# Altium schematic symbol library Okika.SchLib: 139 symbols
Pins are listed as number, name and electrical type; pins without a type are passive.

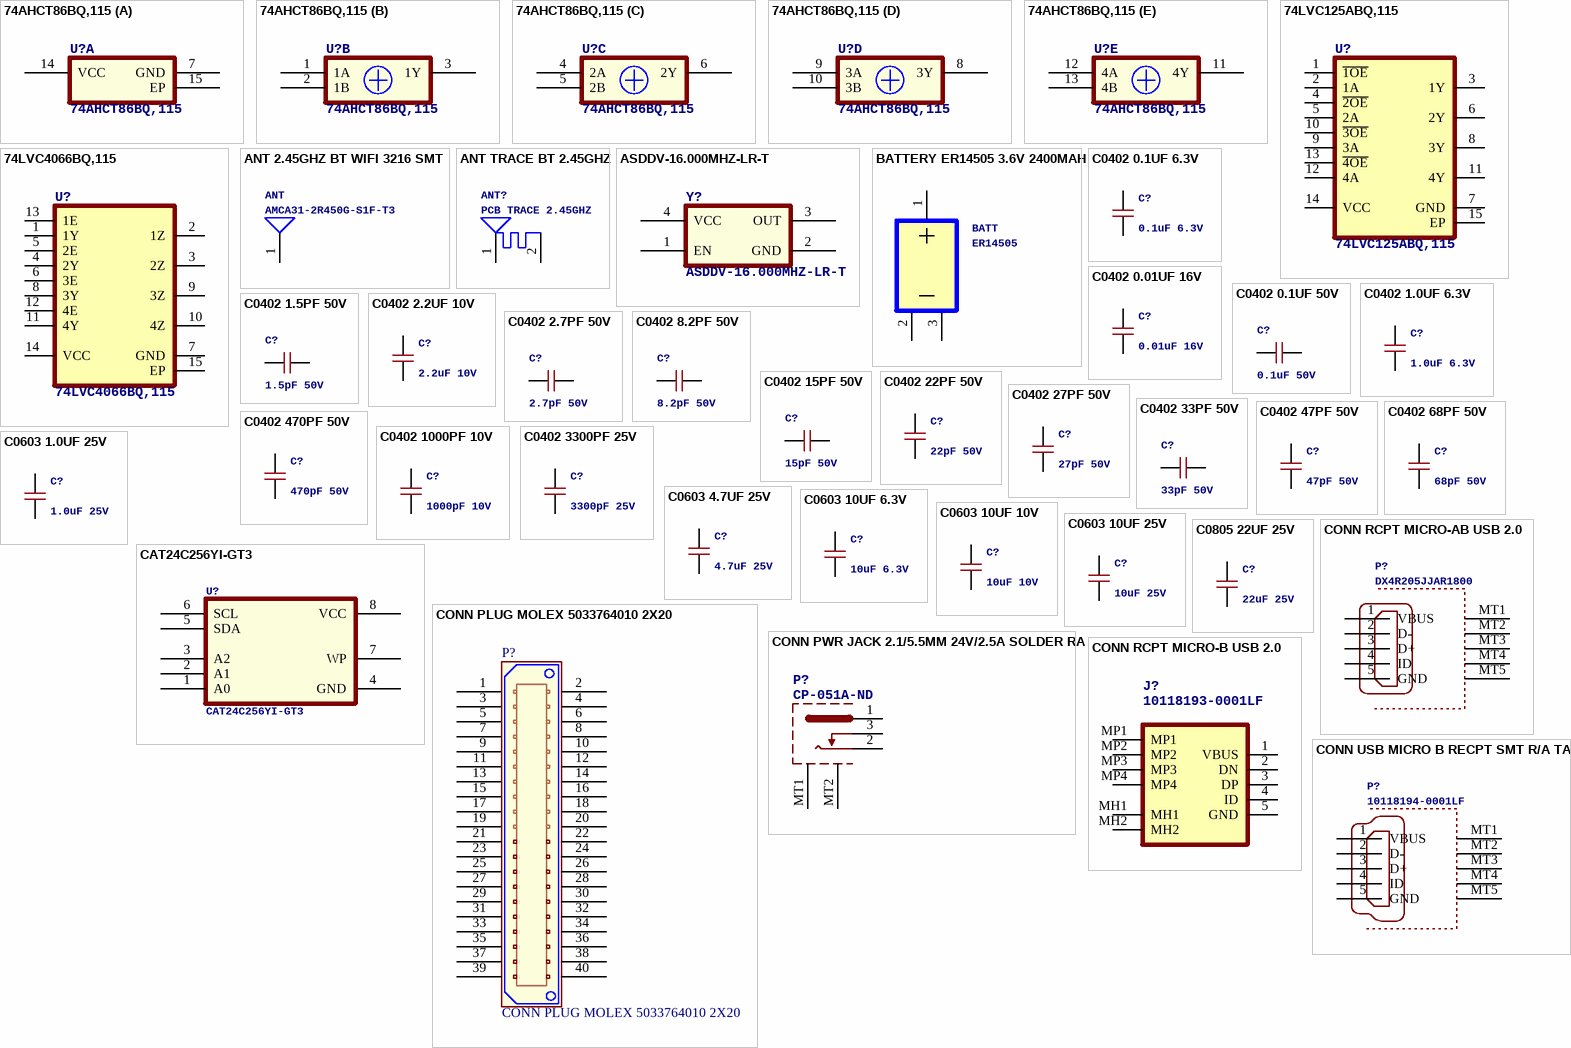
[diagram p0: symbols 74AHCT86BQ,115 to CONN USB MICRO B RECPT SMT R/A TABS]

## 74AHCT86BQ,115
designator U?
IC GATE XOR 4CH 2-INP 14DHVQFN; Manufacturer: NEXPERIA; Manufacturer Part Number: 74AHCT86BQ,115; Supplier 1: Mouser; Supplier 2: Arrow Electronics; Supplier 3: Digi-Key; Supplier Part Number 1: 771-74AHCT86BQ115; Supplier Part Number 2: 74AHCT86BQ,115; Supplier Part Number 3: 1727-4488-6-ND
footprint DHVQFN14
part A pins: 7 GND, 14 VCC, 15 EP
part B pins: 1 1A, 2 1B, 3 1Y
part C pins: 4 2A, 5 2B, 6 2Y
part D pins: 8 3Y, 9 3A, 10 3B
part E pins: 11 4Y, 12 4A, 13 4B

## 74LVC125ABQ,115
designator U?
IC BUFF NON-INVERT 3-ST 1.2-3.6V 14DHVQFN; Manufacturer: Nexperia; Manufacturer Part Number: 74LVC125ABQ,115; Supplier 1: Digi-Key; Supplier Part Number 1: 1727-3481-6-ND; Supplier 2: Mouser; Supplier Part Number 2: 771-LVC125ABQ115
footprint QFN50P250X300X100-15N-D (Footprint not found)
pins: 1 ~{1OE}, 2 1A, 3 1Y, 4 ~{2OE}, 5 2A, 6 2Y, 7 GND, 8 3Y, 9 3A, 10 ~{3OE}, 11 4Y, 12 4A, 13 ~{4OE}, 14 VCC, 15 EP

## 74LVC4066BQ,115
designator U?
IC SWITCH QUAD SPST 14DHVQFN; Manufacturer: Nexperia; Manufacturer Part Number: 74LVC4066BQ,115; Supplier 1: Digi-Key; Supplier Part Number 1: 1727-3499-6-ND; Supplier 2: Arrow Electronics; Supplier Part Number 2: 74LVC4066BQ,115; Supplier 3: Mouser; Supplier Part Number 3: 771-LVC4066BQ115
footprint QFN50P250X300X100-15N-D
pins: 1 1Y, 2 1Z, 3 2Z, 4 2Y, 5 2E, 6 3E, 7 GND, 8 3Y, 9 3Z, 10 4Z, 11 4Y, 12 4E, 13 1E, 14 VCC, 15 EP

## ANT 2.45GHZ BT WIFI 3216 SMT
designator ANT, comment AMCA31-2R450G-S1F-T3
ANTENNA CHIP DIELECTRIC 2450MHZ; Supplier 1: Digi-Key; Supplier Part Number 1: 535-14095-6-ND
footprint NEEDS_UPDATING (Footprint not found)
pins: 1

## ANT TRACE BT 2.45GHZ
designator ANT?, comment PCB TRACE 2.45GHZ  (no BOM)
ANTENNA TRACE BT 2.45GHZ
footprint NEEDS_UPDATING (Footprint not found)
pins: 1, 2

## ASDDV-16.000MHZ-LR-T
designator Y?
OSC XO 16.000MHZ CMOS SMD 2.5x2.0MM; Manufacturer: ABRACON; Manufacturer Part Number: ASDDV-16.000MHZ-LR-T; Supplier 1: Digi-Key; Supplier 2: Mouser; Supplier Part Number 1: 535-ASDDV-16.000MHZ-LR-TDKR-ND; Supplier Part Number 2: 815-ASDDV-1600MHZLRT
footprint XTAL_2X2R5_CX2520
pins: 1 EN, 2 GND, 3 OUT, 4 VCC

## BATTERY ER14505 3.6V 2400MAH
designator BATT, comment ER14505
BATT NON-RECHRG 3.6V 2400mAH TH
footprint NEEDS_UPDATING (Footprint not found)
pins: 1, 2, 3

## C0402 0.1UF 6.3V
designator C?, comment 0.1uF 6.3V
CAP CER 0.1UF 6.3V X5R 0402; Manufacturer: MURATA; Manufacturer Part Number: GRM155R60J104KA01D; Supplier 1: Digi-Key; Supplier Part Number 1: 490-6287-6-ND
footprint SMC_0402
pins: 1, 2

## C0402 0.01UF 16V
designator C?, comment 0.01uF 16V
CAP CER 0.01UF 16V X5R 0402; Manufacturer: MURATA; Manufacturer Part Number: GRM155R61C103KA01D; Supplier 1: Digi-Key; Supplier Part Number 1: 490-6309-6-ND
footprint SMC_0402
pins: 1, 2

## C0402 0.1UF 50V
designator C?, comment 0.1uF 50V
CAP CER 0.1UF 50V X7R 0402; Manufacturer: TAIYO YUDEN; Manufacturer Part Number: UMK105B7104KV-FR; Supplier 1: Digi-Key; Supplier Part Number 1: 587-3498-6-ND
footprint SMC_0402
pins: 1, 2

## C0402 1.0UF 6.3V
designator C?, comment 1.0uF 6.3V
CAP CER 1UF 6.3V X5R 0402; Manufacturer: TAIYO YUDEN; Manufacturer Part Number: JMK105BJ105KV-F; Supplier 1: Digi-Key; Supplier Part Number 1: 587-1231-6-ND
footprint SMC_0402
pins: 1, 2

## C0402 1.5PF 50V
designator C?, comment 1.5pF 50V
CAP CER 1.5PF 50V C0G/NPO 0402; Manufacturer: YAGEO; Manufacturer Part Number: CC0402CRNPO9BN1R5; Supplier 1: Digi-Key; Supplier Part Number 1: 311-1003-6-ND
footprint SMC_0402
pins: 1, 2

## C0402 2.2UF 10V
designator C?, comment 2.2uF 10V
CAP CER 2.2UF 10V X5R 0402; Manufacturer: MURATA; Manufacturer Part Number: GRT155R61A225KE01D; Supplier 1: Digi-Key; Supplier Part Number 1: 490-12253-6-ND
footprint SMC_0402
pins: 1, 2

## C0402 2.7PF 50V
designator C?, comment 2.7pF 50V
CAP CER 2.7PF 50V C0G/NP0 0402; Supplier 1: Digi-Key; Supplier Part Number 1: 490-5934-1-ND
footprint SMC_0402
pins: 1, 2

## C0402 8.2PF 50V
designator C?, comment 8.2pF 50V
CAP CER 8.2PF 50V C0G/NP0 0402; Supplier 1: Digi-Key; Supplier Part Number 1: 490-5953-1-ND
footprint SMC_0402
pins: 1, 2

## C0402 15PF 50V
designator C?, comment 15pF 50V
CAP CER 15PF 50V C0G/NP0 0402; Manufacturer: MURATA; Manufacturer Part Number: GRM1555C1H150JA01D; Supplier 1: Digi-Key; Supplier Part Number 1: 490-5888-1-ND
footprint SMC_0402
pins: 1, 2

## C0402 22PF 50V
designator C?, comment 22pF 50V
CAP CER 22PF 50V C0G/NP0 0402; Supplier 1: Digi-Key; Supplier Part Number 1: 490-11382-1-ND
footprint SMC_0402
pins: 1, 2

## C0402 27PF 50V
designator C?, comment 27pF 50V
CAP CER 27PF 50V C0G/NP0 0402; Supplier 1: Digi-Key; Supplier Part Number 1: 490-11384-1-ND
footprint SMC_0402
pins: 1, 2

## C0402 33PF 50V
designator C?, comment 33pF 50V
CAP CER 33PF 50V C0G/NP0 0402; Supplier 1: Digi-Key; Supplier Part Number 1: 490-5936-1-ND
footprint SMC_0402
pins: 1, 2

## C0402 47PF 50V
designator C?, comment 47pF 50V
CAP CER 47PF 50V C0G/NPO 0402; Supplier 1: Digi-Key; Supplier Part Number 1: 490-6241-1-ND
footprint SMC_0402
pins: 1, 2

## C0402 68PF 50V
designator C?, comment 68pF 50V
CAP CER 68PF 50V C0G/NPO 0402; Supplier 1: Digi-Key; Supplier Part Number 1: 490-5876-1-ND
footprint SMC_0402
pins: 1, 2

## C0402 470PF 50V
designator C?, comment 470pF 50V
CAP CER 470PF 50V C0G/NPO 0402; Manufacturer: YAGEO; Manufacturer Part Number: CC0402JRNPO9BN471; Supplier 1: Digi-Key; Supplier Part Number 1: 311-1671-6-ND
footprint SMC_0402
pins: 1, 2

## C0402 1000PF 10V
designator C?, comment 1000pF 10V
CAP CER 1000PF 10V X5R 0402; Manufacturer: MURATA; Manufacturer Part Number: GRM155R61A102KA01D; Supplier 1: Digi-Key; Supplier Part Number 1: 490-6295-6-ND
footprint SMC_0402
pins: 1, 2

## C0402 3300PF 25V
designator C?, comment 3300pF 25V
CAP CER 3300PF 25V X7R 0402; Manufacturer: TAIYO YUDEN; Manufacturer Part Number: TMK105B7332KV-F; Supplier 1: Digi-Key; Supplier Part Number 1: 587-5592-6-ND
footprint SMC_0402
pins: 1, 2

## C0603 1.0UF 25V
designator C?, comment 1.0uF 25V
CAP CER 1UF 25V X5R 0603; Manufacturer: MURATA; Manufacturer Part Number: GRT188R61E105KE13D; Supplier 1: Digi-Key; Supplier Part Number 1: 490-12321-6-ND
footprint SMC_0603
pins: 1, 2

## C0603 4.7UF 25V
designator C?, comment 4.7uF 25V
CAP CER 4.7UF 25V X5R 0603; Supplier 1: Digi-Key; Supplier Part Number 1: 490-14462-6-ND
footprint SMC_0603
pins: 1, 2

## C0603 10UF 6.3V
designator C?, comment 10uF 6.3V
CAP CER 10UF 6.3V X5R 0603; Supplier 1: Digi-Key; Supplier Part Number 1: 587-6012-6-ND
footprint SMC_0603
pins: 1, 2

## C0603 10UF 10V
designator C?, comment 10uF 10V
CAP CER 10UF 10V X5R 0603; Manufacturer: SAMSUNG; Manufacturer Part Number: CL10A106KP8NNNC; Supplier 1: Digi-Key; Supplier Part Number 1: 1276-1192-6-ND
footprint SMC_0603
pins: 1, 2

## C0603 10UF 25V
designator C?, comment 10uF 25V
CAP CER 10UF 25V X5R 0603; Manufacturer: SAMSUNG; Manufacturer Part Number: CL10A106MA8NRNC; Supplier 1: Digi-Key; Supplier Part Number 1: 1276-1869-6-ND
footprint SMC_0603
pins: 1, 2

## C0805 22UF 25V
designator C?, comment 22uF 25V
CAP CER 22UF 25V X5R 0805; Manufacturer: SAMSUNG; Manufacturer Part Number: CL21A226MAYNNNE; Supplier 1: Digi-Key; Supplier Part Number 1: 1276-CL21A226MAYNNNETR-ND
footprint SMC_0805
pins: 1, 2

## CAT24C256YI-GT3
designator U?
IC EEPROM 256K I2C 1MHZ 8TSSOP; Manufacturer: ON-SEMICONDUCTOR; Supplier 1: Digi-Key; Supplier Part Number 1: CAT24C256YI-GT3OSDKR-ND; Manufacturer Part Number: CAT24C256YI-GT3
footprint NEEDS_UPDATING (Footprint not found)
footprint TSSOP8_6R6X3_R65MLS
pins: 1 A0, 2 A1, 3 A2, 4 GND, 5 SDA, 6 SCL, 7 WP, 8 VCC

## CONN PLUG MOLEX 5033764010 2X20
designator P?
CONN PLUG R/A 40CKT DUAL SMD; Supplier 1: Digi-Key; Supplier Part Number 1: WM14493CT-ND
footprint MOLEX_5033764010
pins: 1, 2, 3, 4, 5, 6, 7, 8, 9, 10, 11, 12, 13, 14, 15, 16, 17, 18, 19, 20, 21, 22, 23, 24, 25, 26, 27, 28, 29, 30, 31, 32, 33, 34, 35, 36, 37, 38, 39, 40

## CONN PWR JACK 2.1/5.5MM 24V/2.5A SOLDER RA
designator P?, comment Supplier Part Number 1: CP-051A-ND  (hidden comment: PJ-051A)
CONN PWR JACK 2.1/5.5MM 24V/2.5A SOLDER RA; Manufacturer: CUI DEVICES; Supplier 1: Digi-Key; Manufacturer Part Number: PJ-051A
footprint PJ-051A
pins: 1 IN, 2 OUT, 3 OUT_CON, MT1, MT2

## CONN RCPT MICRO-AB USB 2.0
designator P?, comment DX4R205JJAR1800
CONN RCPT USB 2.0 MICRO USB-AB; Supplier 1: Digi-Key; Supplier Part Number 1: 670-2677-6-ND
footprint JAE-SJ112925
pins: 1 VBUS, 2 D-, 3 D+, 4 ID, 5 GND, MT1, MT2, MT3, MT4, MT5

## CONN RCPT MICRO-B USB 2.0
designator J?, comment 10118193-0001LF
CONN RCPT USB 2.0 MICRO B SMD R/A; Manufacturer: Amphenol; Part Number: 10118193-0001LF; Supplier 1: Digi-Key; Supplier Part Number 1: 609-4616-6-ND; Supplier 2: Mouser; Supplier Part Number 2: 649-10118193-0001LF; Supplier 3: Arrow; Supplier Part Number 3: 10118193-0001LF
footprint 101181930001LF
pins: 1 VBUS, 2 DN, 3 DP, 4 ID, 5 GND, MH1, MH2, MP1, MP2, MP3, MP4

## CONN USB MICRO B RECPT SMT R/A TABS
designator P?, comment 10118194-0001LF
CONN USB MICRO B RECPT SMT R/A TABS; Supplier 1: Digi-Key; Supplier Part Number 1: 609-4618-6-ND
footprint NEEDS_UPDATING (Footprint not found)
pins: 1 VBUS, 2 D-, 3 D+, 4 ID, 5 GND, MT1, MT2, MT3, MT4, MT5

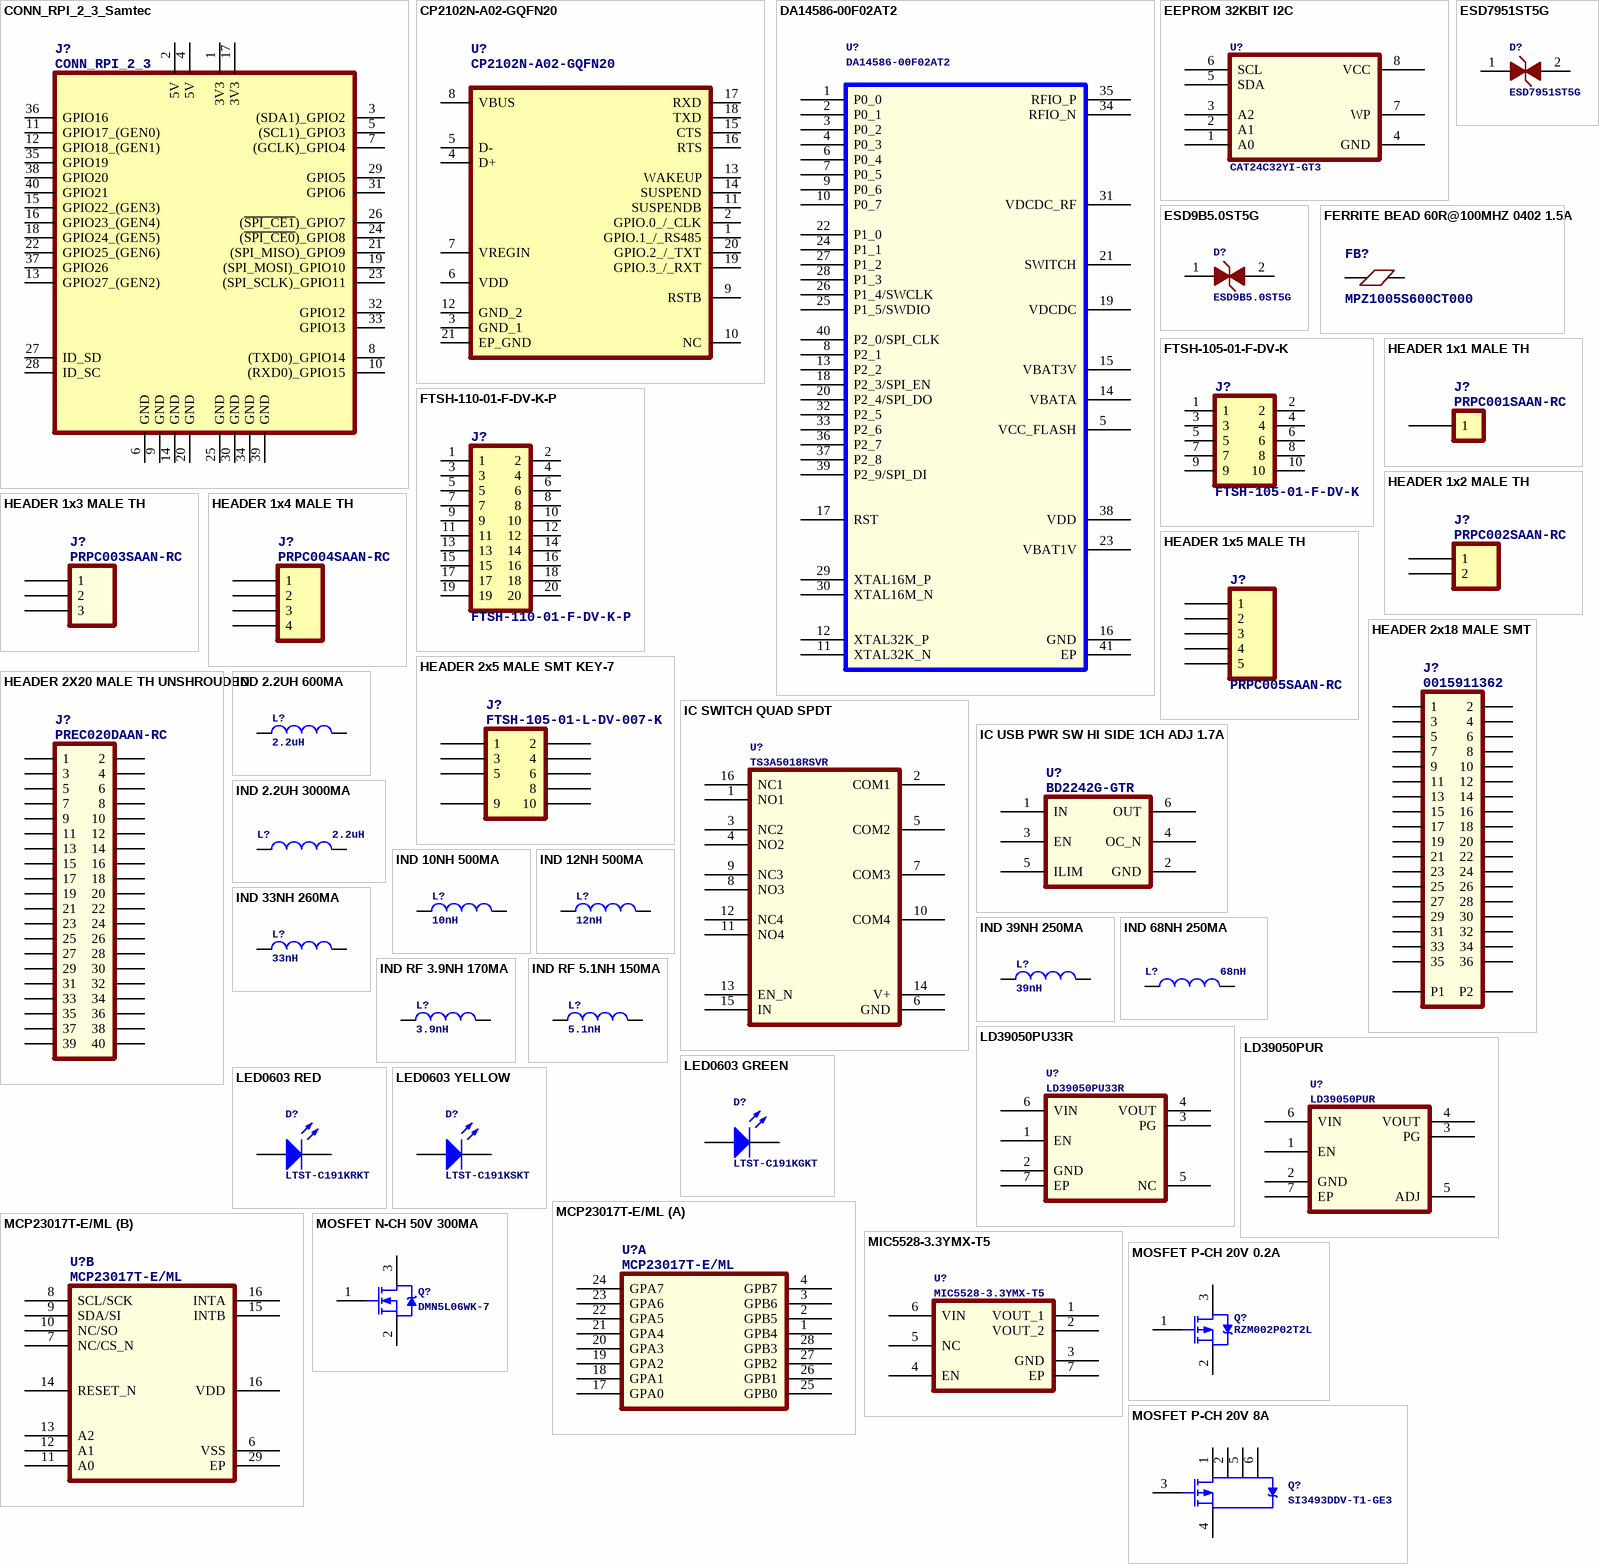
[diagram p1: symbols CONN_RPI_2_3_Samtec to MOSFET P-CH 20V 8A]

## CONN_RPI_2_3_Samtec
designator J?, comment CONN_RPI_2_3
CONN RASPBERRY PI 2/3; Manufacturer: SAMTEC; Manufacturer Part Number: ESQ-120-24-L-D
footprint HDR_20X2_ESQ-120-24-L-D
pins: 1 3V3, 2 5V, 3 (SDA1)_GPIO2, 4 5V, 5 (SCL1)_GPIO3, 6 GND, 7 (GCLK)_GPIO4, 8 (TXD0)_GPIO14, 9 GND, 10 (RXD0)_GPIO15, 11 GPIO17_(GEN0), 12 GPIO18_(GEN1), 13 GPIO27_(GEN2), 14 GND, 15 GPIO22_(GEN3), 16 GPIO23_(GEN4), 17 3V3, 18 GPIO24_(GEN5), 19 (SPI_MOSI)_GPIO10, 20 GND, 21 (SPI_MISO)_GPIO9, 22 GPIO25_(GEN6), 23 (SPI_SCLK)_GPIO11, 24 (~{SPI_CE0})_GPIO8, 25 GND, 26 (~{SPI_CE1})_GPIO7, 27 ID_SD, 28 ID_SC, 29 GPIO5, 30 GND, 31 GPIO6, 32 GPIO12, 33 GPIO13, 34 GND, 35 GPIO19, 36 GPIO16, 37 GPIO26, 38 GPIO20, 39 GND, 40 GPIO21

## CP2102N-A02-GQFN20
designator U?
IC USB TO UART BRIDGE QFN20; Manufacturer: Silicon Labs; Part Number: CP2102N-A02-GQFN20; Supplier 1: Newark; Supplier Part Number 1: 66AH5402; Supplier 2: Mouser; Supplier Part Number 2: 634-CP2102NA02QFN20R; Supplier 3: Digi-Key; Supplier Part Number 3: 336-5886-6-ND; Supplier 4: Arrow; Supplier Part Number 4: CP2102N-A02-GQFN20R
footprint CP2102NA02GQFN20
pins: 1 GPIO.1_/_RS485, 2 GPIO.0_/_CLK, 3 GND_1, 4 D+, 5 D-, 6 VDD, 7 VREGIN, 8 VBUS, 9 RSTB, 10 NC, 11 SUSPENDB, 12 GND_2, 13 WAKEUP, 14 SUSPEND, 15 CTS, 16 RTS, 17 RXD, 18 TXD, 19 GPIO.3_/_RXT, 20 GPIO.2_/_TXT, 21 EP_GND

## DA14586-00F02AT2
designator U?
RADIO BT5.0 CORTEX-M0 2MBIT FLASH QFN40; Supplier 1: Digi-Key; Supplier Part Number 1: 1564-1048-1-ND
footprint NEEDS_UPDATING (Footprint not found)
pins: 1 P0_0, 2 P0_1, 3 P0_2, 4 P0_3, 5 VCC_FLASH, 6 P0_4, 7 P0_5, 8 P2_1, 9 P0_6, 10 P0_7, 11 XTAL32K_N, 12 XTAL32K_P, 13 P2_2, 14 VBATA, 15 VBAT3V, 16 GND, 17 RST, 18 P2_3/SPI_EN, 19 VDCDC, 20 P2_4/SPI_DO, 21 SWITCH, 22 P1_0, 23 VBAT1V, 24 P1_1, 25 P1_5/SWDIO, 26 P1_4/SWCLK, 27 P1_2, 28 P1_3, 29 XTAL16M_P, 30 XTAL16M_N, 31 VDCDC_RF, 32 P2_5, 33 P2_6, 34 RFIO_N, 35 RFIO_P, 36 P2_7, 37 P2_8, 38 VDD, 39 P2_9/SPI_DI, 40 P2_0/SPI_CLK, 41 EP

## EEPROM 32KBIT I2C
designator U?, comment CAT24C32YI-GT3
IC EEPROM 32K I2C 1MHZ 8TSSOP; Manufacturer: ON-SEMICONDUCTOR; Supplier 1: Digi-Key; Supplier Part Number 1: CAT24C32YI-GT3OSDKR-ND; Manufacturer Part Number: CAT24C32YI-GT3
footprint NEEDS_UPDATING (Footprint not found)
footprint TSSOP8_6R6X3_R65MLS
pins: 1 A0, 2 A1, 3 A2, 4 GND, 5 SDA, 6 SCL, 7 WP, 8 VCC

## ESD9B5.0ST5G
designator D?
TVS DIODE 5VWM 12.5VC 15A SOD923; Manufacturer: ON-SEMI; Manufacturer Part Number: SZESD9B5.0ST5G; Supplier 1: Digi-Key; Supplier Part Number 1: SZESD9B5.0ST5GOSDKR-ND
footprint SOD923
pins: 1, 2

## ESD7951ST5G
designator D?
TVS DIODE 5VWM 12.5VC 1A SOD923; Manufacturer: ON-SEMI; Manufacturer Part Number: ESD7951ST5G; Supplier 1: Digi-Key; Supplier 2: Newark; Supplier 3: Avnet; Supplier Part Number 1: ESD7951ST5GOSDKR-ND; Supplier Part Number 2: 81Y6119; Supplier Part Number 3: ESD7951ST5G
footprint SOD923
pins: 1, 2

## FERRITE BEAD 60R@100MHZ 0402 1.5A
designator FB?, comment MPZ1005S600CT000
FERRITE BEAD 60 OHM 0402 1LN; Supplier 1: Digi-Key; Supplier Part Number 1: 445-2980-6-ND
footprint SML_0402
pins: 1, 2

## FTSH-105-01-F-DV-K
designator J?
CONN HEADER SMD VERT 10POS 1.27MM KEYED; Manufacturer: Samtec; Manufacturer Part Number: FTSH-105-01-F-DV-K; Supplier 1: Digi-Key; Supplier Part Number 1: SAM8796-ND; Supplier 2: Mouser; Supplier Part Number 2: 200-FTSH10501FDVK; Supplier 3: Arrow Electronics; Supplier Part Number 3: FTSH-105-01-F-DV-K
footprint Samtec_FTSH-105-01-F-DV-K (CONN HEADER SMD 10POS 1.27MM)
pins: 1, 2, 3, 4, 5, 6, 7, 8, 9, 10

## FTSH-110-01-F-DV-K-P
designator J?
CONN HEADER SMD 20POS 1.27MM; Manufacturer: SAMTEC; Manufacturer Part Number: CONN HEADER SMD 20POS 1.27MM; Supplier 1: Digi-Key; Supplier 2: Avnet; Supplier 3: Arrow Electronics; Supplier 4: Mouser; Supplier Part Number 1: SAM9453-ND; Supplier Part Number 2: FTSH-110-01-F-DV-K-P; Supplier Part Number 3: FTSH-110-01-F-DV-K-P; Supplier Part Number 4: 200-FTSH11001FDVKP
footprint Samtec_FTSH-110-01-F-DV-K-P
pins: 1, 2, 3, 4, 5, 6, 7, 8, 9, 10, 11, 12, 13, 14, 15, 16, 17, 18, 19, 20

## HEADER 1x1 MALE TH
designator J?, comment PRPC001SAAN-RC
CONN HEADER .100" SNGL STR 1POS; Supplier 1: Digi-Key; Supplier Part Number 1: S1011EC-01-ND
footprint HDR1X1_R1LS_R23H
pins: 1

## HEADER 1x2 MALE TH
designator J?, comment PRPC002SAAN-RC
CONN HEADER .100" SNGL STR 2POS; Supplier 1: Digi-Key; Supplier Part Number 1: S1011EC-02-ND
footprint HDR2X1_R1LS_R23H
pins: 1, 2

## HEADER 1x3 MALE TH
designator J?, comment PRPC003SAAN-RC
CONN HEADER .100" SNGL STR 3POS; Manufacturer: SULLINS; Supplier 1: Digi-Key; Supplier Part Number 1: S1011EC-03-ND; Manufacturer Part Number: PRPC003SAAN-RC
footprint HDR3X1_R1LS_R23H
pins: 1, 2, 3

## HEADER 1x4 MALE TH
designator J?, comment PRPC004SAAN-RC
CONN HEADER .100" SNGL STR 4POS; Supplier 1: Digi-Key; Supplier Part Number 1: S1011EC-04-ND
footprint HDR4X1_R1LS_R23H
pins: 1, 2, 3, 4

## HEADER 1x5 MALE TH
designator J?, comment PRPC005SAAN-RC
CONN HEADER .100" SNGL STR 5POS; Supplier 1: Digi-Key; Supplier Part Number 1: S1011EC-05-ND
footprint HDR5X1_R1LS_R23H (Footprint not found)
pins: 1, 2, 3, 4, 5

## HEADER 2x5 MALE SMT KEY-7
designator J?, comment FTSH-105-01-L-DV-007-K
CONN HEADER SMD 10POS 1.27MM KEYED; Supplier 1: Digi-Key; Supplier Part Number 1: SAM9438-ND
footprint HEADER 2x5 MALE SMT KEY-7 (CONN HEADER ZH SIDE 3POS 1.5MM)
pins: 1, 2, 3, 4, 5, 6, 8, 9, 10

## HEADER 2x18 MALE SMT
designator J?, comment 0015911362
CONN HEADER SMD 36POS 2.54MM DUAL ROW; Manufacturer: MOLEX; Supplier 1: Digi-Key; Supplier 2: Mouser; Supplier 3: Avnet; Manufacturer Part Number: 0015911362; Supplier Part Number 1: 0015911362-ND; Supplier Part Number 2: 538-15-91-1362; Supplier Part Number 3: 0015911362
footprint HUSSP36W64P254_2X18_4572X508X840P
pins: 1, 2, 3, 4, 5, 6, 7, 8, 9, 10, 11, 12, 13, 14, 15, 16, 17, 18, 19, 20, 21, 22, 23, 24, 25, 26, 27, 28, 29, 30, 31, 32, 33, 34, 35, 36, 37 P1, 38 P2

## HEADER 2X20 MALE TH UNSHROUDED
designator J?, comment PREC020DAAN-RC
CONN HEADER .100" DUAL STR 40POS; Supplier 1: Digi-Key; Supplier Part Number 1: S2011EC-20-ND
footprint HDR_20X2_R1LS_R45H
pins: 1, 2, 3, 4, 5, 6, 7, 8, 9, 10, 11, 12, 13, 14, 15, 16, 17, 18, 19, 20, 21, 22, 23, 24, 25, 26, 27, 28, 29, 30, 31, 32, 33, 34, 35, 36, 37, 38, 39, 40

## IC SWITCH QUAD SPDT
designator U?, comment TS3A5018RSVR
IC SWITCH QUAD SPDT 16UQFN; Supplier 1: Digi-Key; Supplier Part Number 1: 296-27552-6-ND
footprint NEEDS_UPDATING (Footprint not found)
pins: 1 NO1, 2 COM1, 3 NC2, 4 NO2, 5 COM2, 6 GND, 7 COM3, 8 NO3, 9 NC3, 10 COM4, 11 NO4, 12 NC4, 13 EN_N, 14 V+, 15 IN, 16 NC1

## IC USB PWR SW HI SIDE 1CH ADJ 1.7A
designator U?, comment BD2242G-GTR
IC USB PWR SW HI SIDE 1CH ADJ 1.7A 6SSOP; Supplier 1: Digi-Key; Supplier Part Number 1: BD2242G-GDKR-ND
footprint SSOP6
pins: 1 IN, 2 GND, 3 EN, 4 OC_N, 5 ILIM, 6 OUT

## IND 2.2UH 600MA
designator L?, comment 2.2uH
FIXED IND 2.2UH 600MA 160 MOHM; Supplier 1: Digi-Key; Supplier Part Number 1: 445-8658-6-ND
footprint SML_0805
pins: 1, 2

## IND 2.2UH 3000MA
designator L?, comment 2.2uH
FIXED IND 2.2UH 3A 84 MOHM SMD; Manufacturer: MURATA; Manufacturer Part Number: DFE252012P-2R2M=P2; Supplier 1: Digi-Key; Supplier Part Number 1: 490-10649-6-ND
footprint SML_1008
pins: 1, 2

## IND 10NH 500MA
designator L?, comment 10nH
FIXED IND 10NH 500MA 170 MOHM; Supplier 1: Digi-Key; Supplier Part Number 1: 490-1146-1-ND
footprint SML_0402
pins: 1, 2

## IND 12NH 500MA
designator L?, comment 12nH
FIXED IND 12NH 500MA 140 MOHM; Supplier 1: Digi-Key; Supplier Part Number 1: 490-1147-1-ND
footprint SML_0402
pins: 1, 2

## IND 33NH 260MA
designator L?, comment 33nH
FIXED IND 33NH 260MA 630 MOHM; Supplier 1: Digi-Key; Supplier Part Number 1: 490-1152-1-ND
footprint SML_0402
pins: 1, 2

## IND 39NH 250MA
designator L?, comment 39nH
FIXED IND 39NH 250MA 1.06 OHM; Supplier 1: Digi-Key; Supplier Part Number 1: 490-1092-1-ND
footprint SML_0402
pins: 1, 2

## IND 68NH 250MA
designator L?, comment 68nH
FIXED IND 68NH 250MA 920 MOHM; Supplier 1: Digi-Key; Supplier Part Number 1: 490-2633-1-ND
footprint SML_0402
pins: 1, 2

## IND RF 3.9NH 170MA
designator L?, comment 3.9nH
FIXED IND 3.9NH +/-0.1NH 170MA 500 MOHM; Supplier 1: Digi-Key; Supplier Part Number 1: 490-1131-6-ND
footprint SML_0402
pins: 1, 2

## IND RF 5.1NH 150MA
designator L?, comment 5.1nH
FIXED IND 5.1NH +/-0.1NH 140MA 700 MOHM; Supplier 1: Digi-Key; Supplier Part Number 1: 490-6758-6-ND
footprint SML_0402
pins: 1, 2

## LD39050PU33R
designator U?
IC REG LINEAR FIXED +3.3V 500MA 6DFN; Manufacturer: ST MICRO; Manufacturer Part Number: LD39050PU33R; Supplier 1: Mouser; Supplier 2: Digi-Key; Supplier Part Number 1: 511-LD39050PU33R; Supplier Part Number 2: 497-8716-6-ND
footprint SON95P300X300X80-7N (Footprint not found)
pins: 1 EN, 2 GND, 3 PG, 4 VOUT, 5 NC, 6 VIN, 7 EP

## LD39050PUR
designator U?
IC REG LINEAR POS ADJ 500MA 6DFN; Manufacturer: ST MICRO; Manufacturer Part Number: LD39050PUR; Supplier 1: Mouser; Supplier 2: Digi-Key; Supplier Part Number 1: 511-LD39050PUR; Supplier Part Number 2: 497-8717-6-ND
footprint SON95P300X300X80-7N (Footprint not found)
pins: 1 EN, 2 GND, 3 PG, 4 VOUT, 5 ADJ, 6 VIN, 7 EP

## LED0603 GREEN
designator D?, comment LTST-C191KGKT
LED GREEN CLEAR 0603 SMD; Manufacturer: LITEON; Supplier 1: Digi-Key; Supplier Part Number 1: 160-1446-6-ND; Manufacturer Part Number: LTST-C191KGKT
footprint SMD_0603_CLEAR_GREEN
pins: 1 A, 2 K

## LED0603 RED
designator D?, comment LTST-C191KRKT
LED RED CLEAR 0603 SMD; Manufacturer: LITEON; Supplier 1: Digi-Key; Supplier Part Number 1: 160-1447-1-ND; Manufacturer Part Number: LTST-C191KRKT
footprint SMD_0603_CLEAR_RED
pins: 1 A, 2 K

## LED0603 YELLOW
designator D?, comment LTST-C191KSKT
LED YELLOW CLEAR 0603 SMD; Supplier 1: Digi-Key; Supplier Part Number 1: 160-1448-1-ND
footprint SMD_0603_CLEAR_YELLOW
pins: 1 A, 2 K

## MCP23017T-E/ML
designator U?
IC IO EXPANDER I2C 16B 28QFN; Supplier 1: Digi-Key; Supplier Part Number 1: MCP23017T-E/MLDKR-ND
footprint NEEDS_UPDATING (Footprint not found)
part A pins: 1 GPB4, 2 GPB5, 3 GPB6, 4 GPB7, 17 GPA0, 18 GPA1, 19 GPA2, 20 GPA3, 21 GPA4, 22 GPA5, 23 GPA6, 24 GPA7, 25 GPB0, 26 GPB1, 27 GPB2, 28 GPB3
part B pins: 6 VSS, 7 NC/CS_N, 8 SCL/SCK, 9 SDA/SI, 10 NC/SO, 11 A0, 12 A1, 13 A2, 14 RESET_N, 15 INTB, 16 INTA, 16 VDD, 29 EP

## MIC5528-3.3YMX-T5
designator U?
IC REG LINEAR 3.3V 500MA 6TDFN; Supplier 1: Digi-Key; Supplier Part Number 1: MIC5528-3.3YMX-T5DKR-ND
footprint DFN6EP_1R2x1R2_R4MLS
pins: 1 VOUT_1, 2 VOUT_2, 3 GND, 4 EN, 5 NC, 6 VIN, 7 EP

## MOSFET N-CH 50V 300MA
designator Q?, comment DMN5L06WK-7
MOSFET N-CH 50V 300MA SC70-3; Manufacturer: DIODES INC; Supplier 1: Digi-Key; Supplier Part Number 1: DMN5L06WKDIDKR-ND; Manufacturer Part Number: DMN5L06WK-7
footprint SC70_3P_132
pins: 1 G, 2 S, 3 D

## MOSFET P-CH 20V 0.2A
designator Q?, comment RZM002P02T2L
MOSFET P-CH 20V 0.2A VMT3; Supplier 1: Digi-Key; Supplier Part Number 1: RZM002P02T2LDKR-ND
footprint NEEDS_UPDATING (Footprint not found)
footprint SOT723_123
pins: 1 G, 2 S, 3 D

## MOSFET P-CH 20V 8A
designator Q?, comment SI3493DDV-T1-GE3
MOSFET P-CH 20V 8A 6TSOP; Manufacturer: VISHAY; Supplier 1: Digi-Key; Supplier Part Number 1: SI3493DDV-T1-GE3CT-ND; Manufacturer Part Number: SI3493DDV-T1-GE3
footprint SOT95P284X110-6N (Footprint not found)
pins: 1 D1, 2 D2, 3 G, 4 S, 5 D5, 6 D6

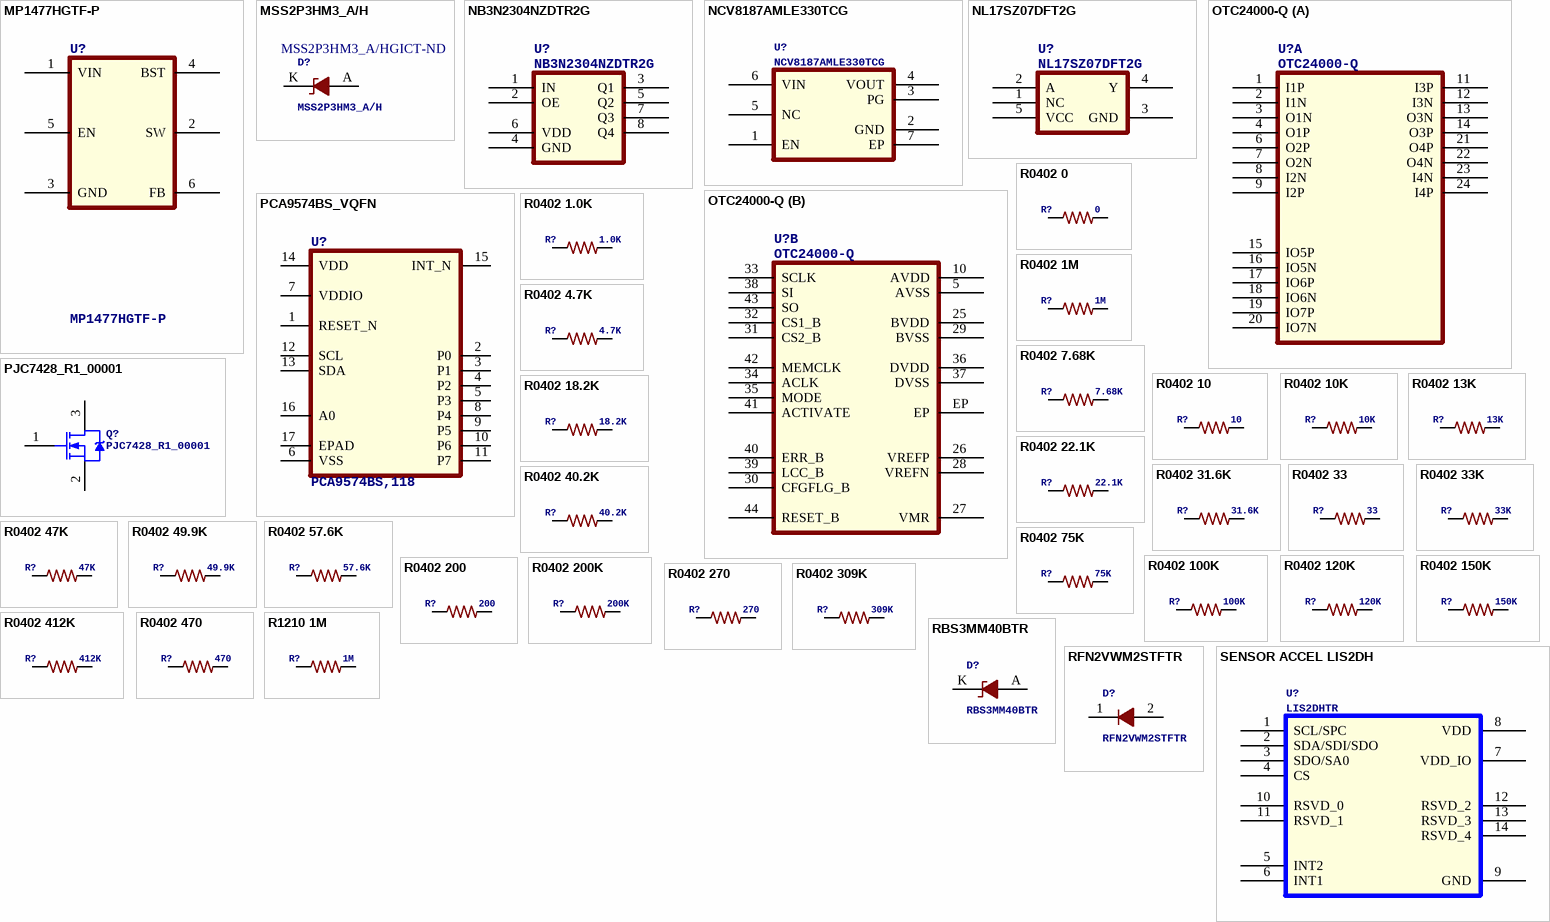
[diagram p2: symbols MP1477HGTF-P to SENSOR ACCEL LIS2DH]

## MP1477HGTF-P
designator U?
IC REG BUCK ADJ 3A 1.2MHZ VIN=4.2-17V VOUT=0.8-10V SOT-563; Manufacturer: MONOLITHIC POWER SYSTEMS; Manufacturer Part Number: MP1477HGTF-P; Supplier 1: Mouser; Supplier Part Number 1: 946-MP1477HGTF-P
footprint NEEDS_UPDATING (Footprint not found)
pins: 1 VIN, 2 SW, 3 GND, 4 BST, 5 EN, 6 FB

## MSS2P3HM3_A/H
designator D?  Supplier Part Number 1: MSS2P3HM3_A/HGICT-ND
DIODE SCHOTTKY 30V 2A MICROSMP; Manufacturer: VISHAY; Manufacturer Part Number: MSS2P3HM3_A/H; Supplier 1: Digi-Key
footprint MICRO_SMP_VISHAY
pins: A, K

## NB3N2304NZDTR2G
designator U?
IC CLK BUFFER 1:4 140MHZ 8TSSOP; Manufacturer: ON-SEMICONDUCTOR; Supplier 1: Digi-Key; Supplier Part Number 1: NB3N2304NZDTR2GOSDKR-ND; Manufacturer Part Number: NB3N2304NZDTR2G
footprint TSSOP8_6R6X3_R65MLS
pins: 1 IN, 2 OE, 3 Q1, 4 GND, 5 Q2, 6 VDD, 7 Q3, 8 Q4

## NCV8187AMLE330TCG
designator U?
IC REG LINEAR 3.3V 1.2A 8-DFN; Manufacturer: ON-SEMICONDUCTOR; Supplier 1: Digi-Key; Supplier 2: Mouser; Supplier 3: Digi-Key; Supplier Part Number 1: 488-NCV8187AMLE330TCGDKR-ND; Supplier Part Number 2: 863-CV8187AMLE330TCG; Supplier Part Number 3: 488-NCV8187AMLE330TCGCT-ND; Manufacturer Part Number: NCV8187AMLE330TCG
footprint SON95P300X300X80-7N (Footprint not found)
pins: 1 EN, 2 GND, 3 PG, 4 VOUT, 5 NC, 6 VIN, 7 EP

## NL17SZ07DFT2G
designator U?
IC BUFFER NON-INVERT O/D 5.5V SC88A; Manufacturer: ON-SEMICONDUCTOR; Supplier 1: Digi-Key; Supplier Part Number 1: NL17SZ07DFT2GOSDKR-ND; Manufacturer Part Number: NL17SZ07DFT2G
footprint SC-88A_CASE419A
pins: 1 NC, 2 A, 3 GND, 4 Y, 5 VCC

## OTC24000-Q
designator U?
IC FPAA 2X2 CAB DC-2MHZ THD=80dB; Manufacturer: OKIKA TECHNOLOGIES; Supplier 1: Okika Technologies; Supplier Part Number 1: OTC24000-Q; Manufacturer Part Number: OTC24000-Q
footprint QFN44EP4R7_7SQ_R5MLS
part A pins: 1 I1P, 2 I1N, 3 O1N, 4 O1P, 6 O2P, 7 O2N, 8 I2N, 9 I2P, 11 I3P, 12 I3N, 13 O3N, 14 O3P, 15 IO5P, 16 IO5N, 17 IO6P, 18 IO6N, 19 IO7P, 20 IO7N, 21 O4P, 22 O4N, 23 I4N, 24 I4P
part B pins: 5 AVSS, 10 AVDD, 25 BVDD, 26 VREFP, 27 VMR, 28 VREFN, 29 BVSS, 30 CFGFLG_B, 31 CS2_B, 32 CS1_B, 33 SCLK, 34 ACLK, 35 MODE, 36 DVDD, 37 DVSS, 38 SI, 39 LCC_B, 40 ERR_B, 41 ACTIVATE, 42 MEMCLK, 43 SO, 44 RESET_B, EP

## PCA9574BS_VQFN
designator U?, comment PCA9574BS,118
IC I/O EXPANDER I2C 8B 16HVQFN; MFG: NXP; MFG PN: PCA9574BS,118; Value: PCA9574BS,118; Created By: Alan Walters; Checked By: *; Class: *; REV: PA1; Supplier 1: Digi-Key; Supplier Part Number 1: 568-8713-1-ND
footprint QFN50P300X300X100-17N-D
pins: 1 RESET_N, 2 P0, 3 P1, 4 P2, 5 P3, 6 VSS, 7 VDDIO, 8 P4, 9 P5, 10 P6, 11 P7, 12 SCL, 13 SDA, 14 VDD, 15 INT_N, 16 A0, 17 EPAD

## PJC7428_R1_00001
designator Q?
MOSFET N-CH 30V 300MA SC70-3; Manufacturer: PANJIT; Manufacturer Part Number: PJC7428_R1_00001; Supplier 1: Digi-Key; Supplier 2: Mouser; Supplier Part Number 1: 3757-PJC7428_R1_00001DKR-ND; Supplier Part Number 2: 241-PJC7428_R1_00001
footprint SOT323_132
pins: 1 G, 2 S, 3 D

## R0402 0
designator R?, comment 0
RES SMD 0 OHM JUMPER 0402; Manufacturer: YAGEO; Manufacturer Part Number: RC0402FR-070RL; Supplier 1: Digi-Key; Supplier Part Number 1: 311-0.0LRDKR-ND
footprint SMR_0402
pins: 1, 2

## R0402 1.0K
designator R?, comment 1.0K
RES SMD 1K OHM 1% 1/16W 0402; MFG: YAGEO; MFG PN: RC0402FR-071KL; Supplier 1: Newark; Supplier 2: Avnet; Supplier 3: Mouser; Supplier 4: Digi-Key; Supplier Part Number 1: 48Y4534; Supplier Part Number 2: RC0402FR-071KL; Supplier Part Number 3: 603-RC0402FR-071KL; Supplier Part Number 4: 311-1.00KLRTR-ND
footprint SMR_0402
pins: 1, 2

## R0402 1M
designator R?, comment 1M
RES SMD 1M OHM 1% 1/16W 0402; Manufacturer: YAGEO; Manufacturer Part Number: RC0402FR-071ML; Supplier 1: Digi-Key; Supplier Part Number 1: 311-1.00MLRDKR-ND
footprint SMR_0402
pins: 1, 2

## R0402 4.7K
designator R?, comment 4.7K
RES SMD 4.7K OHM 1% 1/16W 0402; Manufacturer: YAGEO; Manufacturer Part Number: RC0402FR-074K7L; Supplier 1: Digi-Key; Supplier Part Number 1: 311-4.7KLRDKR-ND
footprint SMR_0402
pins: 1, 2

## R0402 7.68K
designator R?, comment 7.68K
RES SMD 7.68K OHM 1% 1/16W 0402; Manufacturer: YAGEO; Manufacturer Part Number: RC0402FR-077K68L; Supplier 1: Digi-Key; Supplier 2: Mouser; Supplier Part Number 1: YAG3237DKR-ND; Supplier Part Number 2: 603-RC0402FR-077K68L
footprint SMR_0402
pins: 1, 2

## R0402 10
designator R?, comment 10
RES SMD 10 OHM 1% 1/16W 0402; Manufacturer: BOURNS; Manufacturer Part Number: CR0402-FX-10R0GLF; Supplier 1: Digi-Key; Supplier Part Number 1: CR0402-FX-10R0GLFDKR-ND
footprint SMR_0402
pins: 1, 2

## R0402 10K
designator R?, comment 10K
RES SMD 10K OHM 1% 1/16W 0402; Manufacturer: YAGEO; Manufacturer Part Number: RC0402FR-0710KL; Supplier 1: Digi-Key; Supplier Part Number 1: 311-10.0KLRDKR-ND
footprint SMR_0402
pins: 1, 2

## R0402 13K
designator R?, comment 13K
RES SMD 13K OHM 1% 1/16W 0402; Manufacturer: BOURNS; Manufacturer Part Number: CR0402-FX-1302GLF; Supplier 1: Digi-Key; Supplier Part Number 1: CR0402-FX-1302GLFDKR-ND
footprint SMR_0402
pins: 1, 2

## R0402 18.2K
designator R?, comment 18.2K
RES SMD 18.2K OHM 1% 1/16W 0402; Supplier 1: Digi-Key; Supplier Part Number 1: YAG2371DKR-ND
footprint SMR_0402
pins: 1, 2

## R0402 22.1K
designator R?, comment 22.1K
RES SMD 22.1K OHM 1% 1/16W 0402; Manufacturer: Yageo; Part Number: RC0402FR-0722K1L; Supplier 1: Digi-Key; Supplier Part Number 1: 311-22.1KLRDKR-ND; Supplier 2: Avnet; Supplier Part Number 2: RC0402FR-0722K1L; Supplier 3: Mouser; Supplier Part Number 3: 603-RC0402FR-0722K1L
footprint SMR_0402
pins: 1, 2

## R0402 31.6K
designator R?, comment 31.6K
RES SMD 31.6K OHM 1% 1/16W 0402; Manufacturer: YAGEO; Manufacturer Part Number: RT0402FRE0731K6L; Supplier 1: Mouser; Supplier 2: Digi-Key; Supplier Part Number 1: 603-RT0402FRE0731K6L; Supplier Part Number 2: 13-RT0402FRE0731K6LDKR-ND
footprint SMR_0402
pins: 1, 2

## R0402 33
designator R?, comment 33
RES SMD 33 OHM 1% 1/16W 0402; Manufacturer: YAGEO; Manufacturer Part Number: RC0402FR-0733RP; Supplier 1: Digi-Key; Supplier 2: Digi-Key; Supplier Part Number 2: A129609CT-ND; Supplier Part Number 1: YAG1264DKR-ND
footprint SMR_0402
pins: 1, 2

## R0402 33K
designator R?, comment 33K
RES SMD 33K OHM 1% 1/16W 0402; Supplier 1: Digi-Key; Supplier Part Number 1: 311-33.0KLRDKR-ND
footprint SMR_0402
pins: 1, 2

## R0402 40.2K
designator R?, comment 40.2K
RES SMD 40.2K OHM 1% 1/16W 0402; Manufacturer: BOURNS; Manufacturer Part Number: CR0402-FX-4022GLF; Supplier 1: Digi-Key; Supplier Part Number 1: CR0402-FX-4022GLFDKR-ND
footprint SMR_0402
pins: 1, 2

## R0402 47K
designator R?, comment 47K
RES SMD 47K OHM 1% 1/16W 0402; Manufacturer: YAGEO; Manufacturer Part Number: RC0402FR-0747KL; Supplier 1: Digi-Key; Supplier Part Number 1: 311-47.0KLRDKR-ND
footprint SMR_0402
pins: 1, 2

## R0402 49.9K
designator R?, comment 49.9K
RES SMD 49.9K OHM 1% 1/16W 0402; Supplier 1: Digi-Key; Supplier Part Number 1: YAG3493DKR-ND
footprint SMR_0402
pins: 1, 2

## R0402 57.6K
designator R?, comment 57.6K
RES SMD 57.6K OHM 1% 1/16W 0402; Manufacturer: YAGEO; Manufacturer Part Number: RC0402FR-0757K6L; Supplier 1: Digi-Key; Supplier Part Number 1: YAG3190DKR-ND
footprint SMR_0402
pins: 1, 2

## R0402 75K
designator R?, comment 75K
RES SMD 75K OHM 1% 1/16W 0402; Manufacturer: BOURNS; Manufacturer Part Number: CR0402-FX-7502GLF; Supplier 1: Digi-Key; Supplier Part Number 1: CR0402-FX-7502GLFDKR-ND
footprint SMR_0402
pins: 1, 2

## R0402 100K
designator R?, comment 100K
RES SMD 100K OHM 1% 1/16W 0402; Manufacturer: YAGEO; Manufacturer Part Number: RC0402FR-07100KL; Supplier 1: Digi-Key; Supplier Part Number 1: 311-100KLRDKR-ND
footprint SMR_0402
pins: 1, 2

## R0402 120K
designator R?, comment 120K
RES SMD 120K OHM 1% 1/16W 0402; Supplier 1: Digi-Key; Supplier Part Number 1: 311-120KLRDKR-ND
footprint SMR_0402
pins: 1, 2

## R0402 150K
designator R?, comment 150K
RES SMD 150K OHM 1% 1/16W 0402; Supplier 1: Digi-Key; Supplier Part Number 1: 311-150KLRDKR-ND
footprint SMR_0402
pins: 1, 2

## R0402 200
designator R?, comment 200
RES SMD 200 OHM 1% 1/16W; Manufacturer: YAGEO; Manufacturer Part Number: RC0402FR-0720KL; Supplier 1: Digi-Key; Supplier Part Number 1: 311-0.0LRDKR-ND
footprint SMR_0402
pins: 1, 2

## R0402 200K
designator R?, comment 200K
RES SMD 200K OHM 1% 1/16W 0402; Manufacturer: YAGEO; Manufacturer Part Number: RC0402FR-07200KL; Supplier 1: Digi-Key; Supplier Part Number 1: 311-200KLRDKR-ND
footprint SMR_0402
pins: 1, 2

## R0402 270
designator R?, comment 270
RES SMD 270 OHM 1% 1/16W 0402; Manufacturer: YAGEO; Manufacturer Part Number: RC0402FR-07270RL; Supplier 1: Digi-Key; Supplier Part Number 1: 311-270LRDKR-ND
footprint SMR_0402
pins: 1, 2

## R0402 309K
designator R?, comment 309K
RES SMD 309K OHM 1% 1/16W 0402; Manufacturer: YAGEO; Manufacturer Part Number: RC0402FR-07309KL; Supplier 1: Digi-Key; Supplier Part Number 1: YAG3108DKR-ND
footprint SMR_0402
pins: 1, 2

## R0402 412K
designator R?, comment 412K
RES SMD 412K OHM 1% 1/16W 0402; Supplier 1: Digi-Key; Supplier Part Number 1: YAG3153DKR-ND
footprint SMR_0402
pins: 1, 2

## R0402 470
designator R?, comment 470
RES SMD 470 OHM 1% 1/16W 0402; Supplier 1: Digi-Key; Supplier Part Number 1: 311-470LRDKR-ND
footprint SMR_0402
pins: 1, 2

## R1210 1M
designator R?, comment 1M
RES SMD 1M OHM 1% 1/2W 1210; Supplier 1: Digi-Key; Supplier Part Number 1: 541-1.0MAADKR-ND
footprint SMR_1210
pins: 1, 2

## RBS3MM40BTR
designator D?
DIODE SCHOTTKY 20V 3A 450MV@3A SOD-123F; Manufacturer: ROHM; Manufacturer Part Number: RBS3MM40BTR; Supplier 1: Digi-Key; Supplier 2: Mouser; Supplier Part Number 1: 846-RBS3MM40BDKR-ND; Supplier Part Number 2: 755-RBS3MM40BTR
footprint NEEDS_UPDATE (Footprint not found)
pins: A, K

## RFN2VWM2STFTR
designator D?
DIODE REC 200V 2A 14NS, PMDE, ULTRA FAST RECOVERY; Manufacturer: ROHM; Manufacturer Part Number: RFN2VWM2STFTR
footprint PMDE-2
pins: 1 K, 2 A

## SENSOR ACCEL LIS2DH
designator U?, comment LIS2DHTR
IC ACCEL 3-AXIS 2/4/8/16G 1.7-3.6V LGA-14; Supplier 1: Digi-Key; Supplier Part Number 1: 497-13795-6-ND
footprint NEEDS_UPDATING (Footprint not found)
pins: 1 SCL/SPC, 2 SDA/SDI/SDO, 3 SDO/SA0, 4 CS, 5 INT2, 6 INT1, 7 VDD_IO, 8 VDD, 9 GND, 10 RSVD_0, 11 RSVD_1, 12 RSVD_2, 13 RSVD_3, 14 RSVD_4

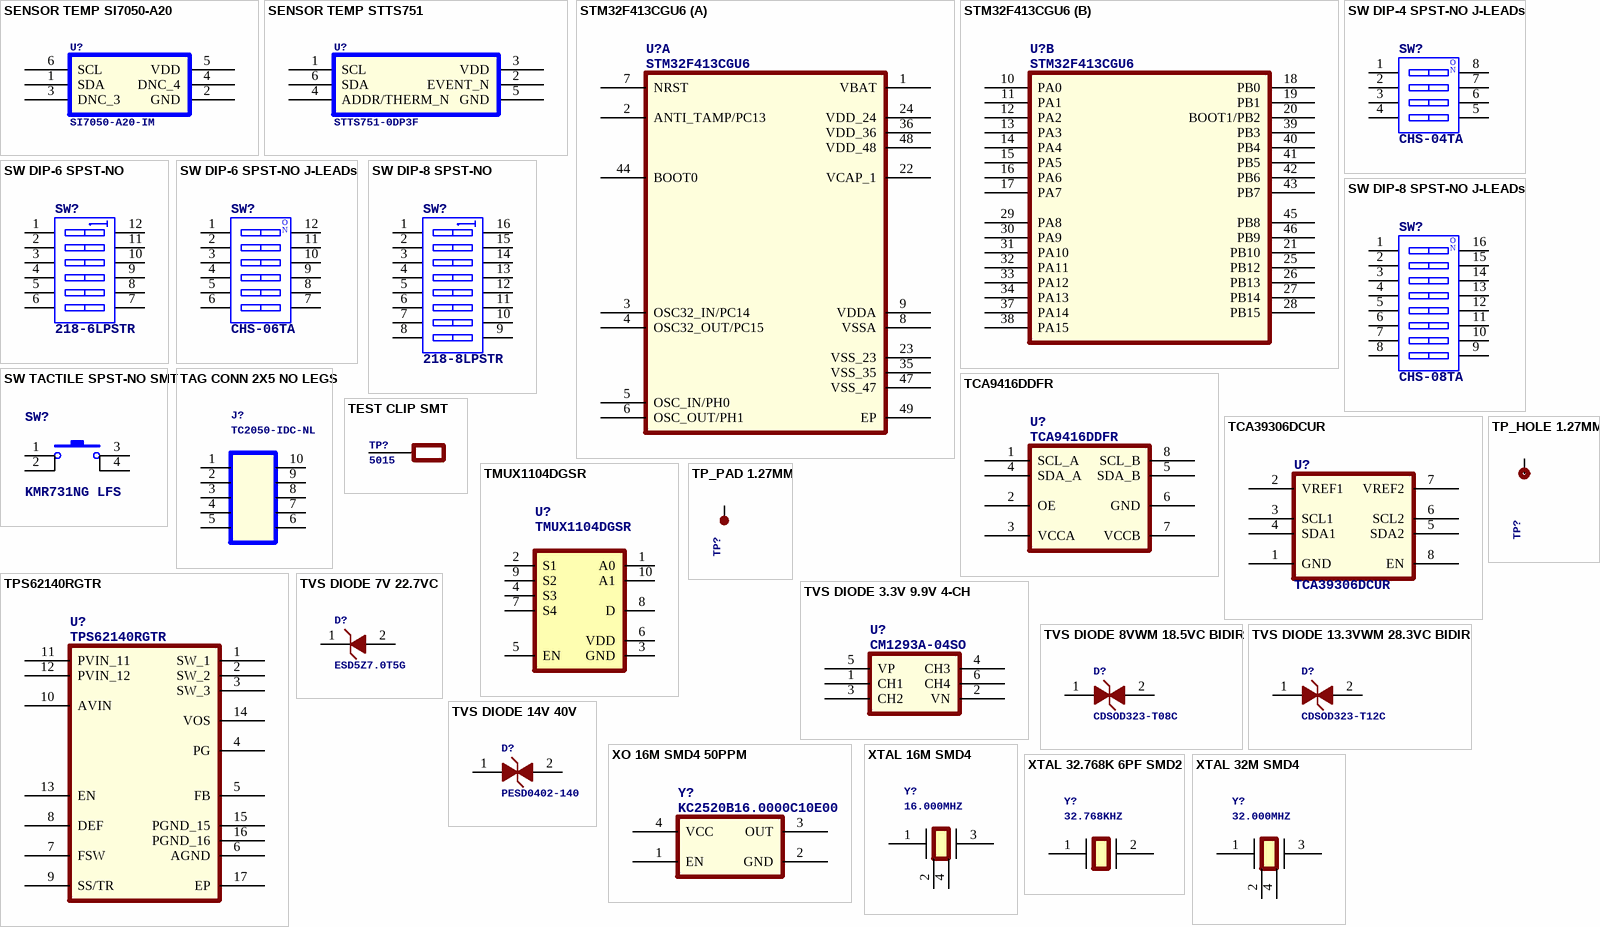
[diagram p3: symbols SENSOR TEMP SI7050-A20 to XTAL 32M SMD4]

## SENSOR TEMP SI7050-A20
designator U?, comment SI7050-A20-IM
IC TEMP SENSOR I2C 1.9-3.6V 14-BIT -40/125C; Supplier 1: Digi-Key; Supplier Part Number 1: 336-4329-6-ND
footprint NEEDS_UPDATING (Footprint not found)
pins: 1 SDA, 2 GND, 3 DNC_3, 4 DNC_4, 5 VDD, 6 SCL

## SENSOR TEMP STTS751
designator U?, comment STTS751-0DP3F
IC TEMP SENSOR I2C 2.25-3.6V 11-BIT -40/125C; Supplier 1: Digi-Key; Supplier Part Number 1: 497-10723-6-ND
footprint NEEDS_UPDATING (Footprint not found)
pins: 1 SCL, 2 EVENT_N, 3 VDD, 4 ADDR/THERM_N, 5 GND, 6 SDA

## STM32F413CGU6
designator U?
IC MCU 32BIT 1MB FLASH 48UFQFN; Supplier 1: Digi-Key; Supplier Part Number 1: 497-17017-ND
footprint UFQFPN48EP5R3_7SQ_R5MLS_R9H
part A pins: 1 VBAT, 2 ANTI_TAMP/PC13, 3 OSC32_IN/PC14, 4 OSC32_OUT/PC15, 5 OSC_IN/PH0, 6 OSC_OUT/PH1, 7 NRST, 8 VSSA, 9 VDDA, 22 VCAP_1, 23 VSS_23, 24 VDD_24, 35 VSS_35, 36 VDD_36, 44 BOOT0, 47 VSS_47, 48 VDD_48, 49 EP
part B pins: 10 PA0, 11 PA1, 12 PA2, 13 PA3, 14 PA4, 15 PA5, 16 PA6, 17 PA7, 18 PB0, 19 PB1, 20 BOOT1/PB2, 21 PB10, 25 PB12, 26 PB13, 27 PB14, 28 PB15, 29 PA8, 30 PA9, 31 PA10, 32 PA11, 33 PA12, 34 PA13, 37 PA14, 38 PA15, 39 PB3, 40 PB4, 41 PB5, 42 PB6, 43 PB7, 45 PB8, 46 PB9

## SW DIP-4 SPST-NO J-LEADs
designator SW?, comment CHS-04TA
DIP SWITCH 4-POS SPST-NO 1.27MM PITCH; MFG: Copal Electronics; MFG PN: CHS-04TA; Supplier 1: Digi-Key; Supplier 2: Arrow; Supplier 3: Newark; Supplier 4: Avnet; Supplier Part Number 1: 563-1007-6-ND; Supplier Part Number 2: CHS-04TA; Supplier Part Number 3: 56AC5258; Supplier Part Number 4: CHS-04TA
footprint CHS04TA1
pins: 1 A1, 2 A2, 3 A3, 4 A4, 5 B4, 6 B3, 7 B2, 8 B1
text: O; N

## SW DIP-6 SPST-NO
designator SW?, comment 218-6LPSTR
DIP SWITCH 6-POS SPST-NO 1.27MM PITCH
footprint CTS_218-6LPSTR
pins: 1 A1, 2 A2, 3 A3, 4 A4, 5 A5, 6 A6, 7 B6, 8 B5, 9 B4, 10 B3, 11 B2, 12 B1

## SW DIP-6 SPST-NO J-LEADs
designator SW?, comment CHS-06TA
DIP SWITCH 6-POS SPST-NO 1.27MM PITCH; Supplier 1: Digi-Key; Supplier Part Number 1: 563-1009-1-ND
footprint CHS-06TA (SWITCH SLIDE SPST, 100MA, 6V)
pins: 1 A1, 2 A2, 3 A3, 4 A4, 5 A5, 6 A6, 7 B6, 8 B5, 9 B4, 10 B3, 11 B2, 12 B1
text: O; N

## SW DIP-8 SPST-NO
designator SW?, comment 218-8LPSTR
DIP SWITCH 8-POS SPST-NO 1.27MM PITCH
footprint CTS_218-8LPSTR
pins: 1 A1, 2 A2, 3 A3, 4 A4, 5 A5, 6 A6, 7 A7, 8 A8, 9 B8, 10 B7, 11 B6, 12 B5, 13 B4, 14 B3, 15 B2, 16 B1

## SW DIP-8 SPST-NO J-LEADs
designator SW?, comment CHS-08TA
DIP SWITCH 8-POS SPST-NO 1.27MM PITCH; Manufacturer: NIDEC COPAL ELEC; Supplier 1: Digi-Key; Supplier Part Number 1: 563-1011-1-ND; Manufacturer Part Number: CHS-08TA
footprint CHS-08TA (WITCH SLIDE SPST, 100MA, 6V)
pins: 1 A1, 2 A2, 3 A3, 4 A4, 5 A5, 6 A6, 7 A7, 8 A8, 9 B8, 10 B7, 11 B6, 12 B5, 13 B4, 14 B3, 15 B2, 16 B1
text: O; N

## SW TACTILE SPST-NO SMT
designator SW?, comment KMR731NG LFS
SWITCH TACTILE SPST-NO 50MA 32V; Manufacturer: C&K; Supplier 1: Digi-Key; Supplier Part Number 1: CKN10687DKR-ND; Manufacturer Part Number: KMR731NG LFS
footprint NEEDS_UPDATING (Footprint not found)
footprint SW_KMR731NG
pins: 1, 2, 3, 4

## TAG CONN 2X5 NO LEGS
designator J?, comment TC2050-IDC-NL  (no BOM)
CONN PADS 2X5 0.050" PITCH NO LEGS
footprint NEEDS_UPDATING (Footprint not found)
pins: 1, 2, 3, 4, 5, 6, 7, 8, 9, 10

## TCA9416DDFR
designator U?
IC ULTRA-LOW VOLTAGE I2C TRANSLATOR; Manufacturer: TEXAS INSTRUMENTS; Manufacturer Part Number: TCA9416DDFR; Supplier 1: Digikey; Supplier Part Number 1: 296-TCA9416DDFRDKR-ND
footprint DDF0008A_SOT-23-8
pins: 1 SCL_A, 2 OE, 3 VCCA, 4 SDA_A, 5 SDA_B, 6 GND, 7 VCCB, 8 SCL_B

## TCA39306DCUR
designator U?
IC VOLTAGE TRANSLATOR I2C 8-VSSOP; Manufacturer: TEXAS INSTRUMENTS; Manufacturer Part Number: TCA39306DCUR; Supplier 1: Digi-Key; Supplier 2: Mouser; Supplier Part Number 1: 296-TCA39306DCURDKR-ND; Supplier Part Number 2: 595-TCA39306DCUR
footprint NEEDS_UPDATING (Footprint not found)
pins: 1 GND, 2 VREF1, 3 SCL1, 4 SDA1, 5 SDA2, 6 SCL2, 7 VREF2, 8 EN

## TEST CLIP SMT
designator TP?, comment 5015
TEST CLIP PC MINIATURE SMT; Supplier 1: Digi-Key; Supplier Part Number 1: 36-5015DKR-ND
footprint Keystone5015 (TEST POINT PC MINIATURE SMT)
pins: 1

## TMUX1104DGSR
designator U?
IC SWITCH 4:1 140MHZ 10VSSOP; Manufacturer: TEXAS INSTRUMENTS; Manufacturer Part Number: TMUX1104DGSR; Supplier 1: Digi-Key; Supplier Part Number 1: 296-53437-6-ND; Supplier 2: Mouser; Supplier Part Number 2: 595-TMUX1104DGSR; Supplier 3: Arrow; Supplier Part Number 3: TMUX1104DGSR
footprint SOP50P490X110-10N
pins: 1 A0, 2 S1, 3 GND, 4 S3, 5 EN, 6 VDD, 7 S4, 8 D, 9 S2, 10 A1

## TP_HOLE 1.27MM
designator TP?  (value not drawn)  (no BOM)
TEST POINT PLATED THROUGH-HOLE
footprint TP_TH_1R27MM
footprint TP_TH_1R27MM
pins: TP

## TP_PAD 1.27MM
designator TP?  (value not drawn)  (no BOM)
TEST POINT SURFACE PAD
footprint TP_SMD_1R27MM
pins: TP

## TPS62140RGTR
designator U?
IC REG BUCK ADJ 2A 2.5MHZ VIN=3-17V VOUT=0.9-6V; Manufacturer: TEXAS INSTRUMENTS; Supplier 1: Digi-Key; Supplier Part Number 1: 296-37683-6-ND; Manufacturer Part Number: TPS62140RGTR
footprint QFN16EP1R7_3SQ_R5MLS_1H
pins: 1 SW_1, 2 SW_2, 3 SW_3, 4 PG, 5 FB, 6 AGND, 7 FSW, 8 DEF, 9 SS/TR, 10 AVIN, 11 PVIN_11, 12 PVIN_12, 13 EN, 14 VOS, 15 PGND_15, 16 PGND_16, 17 EP

## TVS DIODE 3.3V 9.9V 4-CH
designator U?, comment CM1293A-04SO
TVS DIODE 3.3V 9.9V 4-CH SC74; Supplier 1: Digi-Key; Supplier Part Number 1: CM1293A-04SOOSDKR-ND
footprint SC74_6P
pins: 1 CH1, 2 VN, 3 CH2, 4 CH3, 5 VP, 6 CH4

## TVS DIODE 7V 22.7VC
designator D?, comment ESD5Z7.0T5G
TVS DIODE 7VWM 22.7VC 200W SOD523; Supplier 1: Digi-Key; Supplier Part Number 1: ESD5Z7.0T5GOSDKR-ND
footprint NEEDS_UPDATING (Footprint not found)
pins: 1, 2

## TVS DIODE 8VWM 18.5VC BIDIR
designator D?, comment CDSOD323-T08C
TVS DIODE 8VWM 18.5VC 350W BIDIR SOD323; Manufacturer: BOURNS; Supplier 1: Digi-Key; Supplier Part Number 1: CDSOD323-T08CDKR-ND; Manufacturer Part Number: CDSOD323-T08C
footprint SOD-323-1 (TVS DIODE 8V 18.5V SOD323)
pins: 1, 2

## TVS DIODE 13.3VWM 28.3VC BIDIR
designator D?, comment CDSOD323-T12C
TVS DIODE 13.3VWM 28.3VC 350W BIDIR SOD323; Manufacturer: BOURNS; Supplier 1: Digi-Key; Supplier Part Number 1: CDSOD323-T12CDKR-ND; Manufacturer Part Number: CDSOD323-T12C
footprint SOD-323-1 (TVS DIODE 8V 18.5V SOD323)
pins: 1, 2

## TVS DIODE 14V 40V
designator D?, comment PESD0402-140
TVS DIODE 14VWM 40VC 0402; Supplier 1: Digi-Key; Supplier Part Number 1: PESD0402-140CT-ND
footprint SMP_0402
pins: 1, 2

## XO 16M SMD4 50PPM
designator Y?, comment KC2520B16.0000C10E00
OSC XO 16.000MHZ CMOS SMD; Manufacturer: KYOCERA AVX; Supplier 1: Digi-Key; Supplier Part Number 1: 478-6296-6-ND; Manufacturer Part Number: KC2520B16.0000C10E00
footprint XTAL_2X2R5_CX2520
pins: 1 EN, 2 GND, 3 OUT, 4 VCC

## XTAL 16M SMD4
designator Y?, comment 16.000MHZ
CRYSTAL 16.0000MHZ 10PPM 10PF 3225 SMD; Supplier 1: Digi-Key; Supplier Part Number 1: 887-1319-6-ND
footprint XTAL_ABRACON_ABM8G
pins: 1, 2, 3, 4

## XTAL 32.768K 6PF SMD2
designator Y?, comment 32.768KHZ
CRYSTAL 32.7680KHZ 20PPM 70KOHM 6PF SMD; Supplier 1: Digi-Key; Supplier Part Number 1: 887-2606-6-ND
footprint SMX_1206
pins: 1, 2

## XTAL 32M SMD4
designator Y?, comment 32.000MHZ
CRYSTAL 32.0000MHZ 10PPM 10PF 2520 SMD; Supplier 1: Digi-Key; Supplier Part Number 1: 644-1065-1-ND
footprint XTAL_2X2R5_NDK
pins: 1, 2, 3, 4